# Altium footprint library kond.PcbLib: 1 footprints
Each footprint in its own frame and in the unit in brackets; x right, y up, seen from the top. Pads: shape width x height; smd on the part's side, far side on the other; paste and mask are expansions set on the pad; w line width, h text height; cw(c..) or ccw(c..) is an arc to the next point about the centre after c.
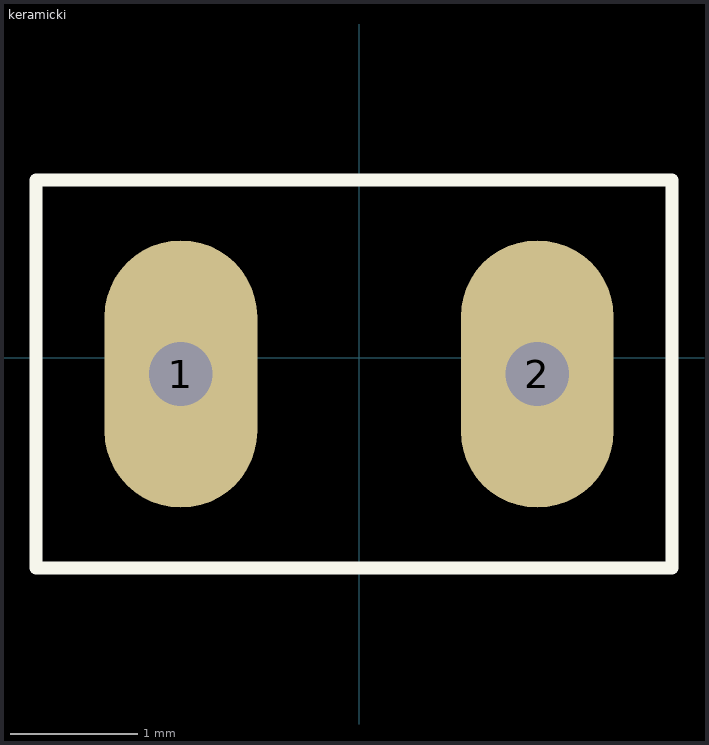
[diagram p0: the footprint, top view; thin cyan lines are the x and y axes]

## keramicki [mm]
pads (2):
  oval 1.2x2.1 hole 0.5: 1(-1.4,-0.127) 2(1.4,-0.127)
Top Overlay:
  lines w0.102: -2.54,-1.651 2.46,-1.651 2.46,1.397 -2.54,1.397 -2.54,-1.651